# Altium footprint library diode.PcbLib: 1 footprints
Each footprint in its own frame and in the unit in brackets; x right, y up, seen from the top. Pads: shape width x height; smd on the part's side, far side on the other; paste and mask are expansions set on the pad; w line width, h text height; cw(c..) or ccw(c..) is an arc to the next point about the centre after c.
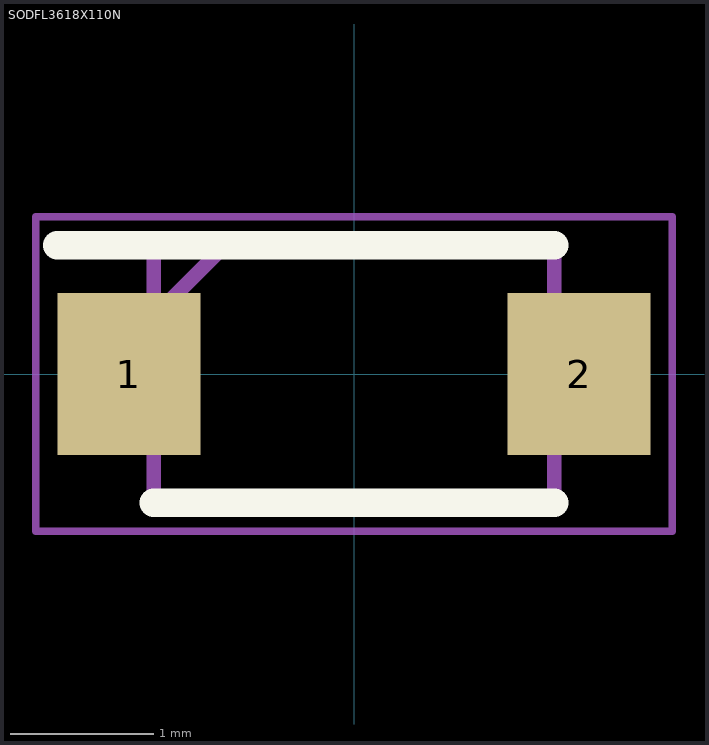
[diagram p0: the footprint, top view; thin cyan lines are the x and y axes]

## SODFL3618X110N [mm]
pads (2):
  rect 1x1.13 smd: 1(-1.575,0) 2(1.575,0)
Top Overlay:
  lines w0.2: -2.075,0.9 1.4,0.9 ; -1.4,-0.9 1.4,-0.9
Mechanical 13:
  lines w0.1: -1.4,0.4 -0.9,0.9 ; -1.4,-0.9 1.4,-0.9 1.4,0.9 -1.4,0.9 -1.4,-0.9
Mechanical 15:
  lines w0.05: -2.225,-1.1 2.225,-1.1 2.225,1.1 -2.225,1.1 -2.225,-1.1
3D body "ES1002FL_R1_00001.stp": height 1.1, standoff 0, extent -1.8,-0.9 1.8,0.9